# Altium schematic symbol library Inductors.SchLib: 9 symbols
Pins are listed as number, name and electrical type; pins without a type are passive.

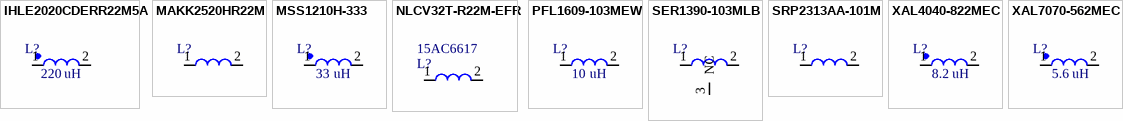
[diagram p0: symbols IHLE2020CDERR22M5A to XAL7070-562MEC]

## IHLE2020CDERR22M5A
designator L?  value 220  Units: uH  (hidden comment: *)
Power Inductor, 0.22UH, Shielded, 18A;; Manufacturer: Vishay; Manufacturer Part Number: IHLE2020CDERR22M5A; Supplier 1: Digi-Key; Stock 1: 200; Pricing 1: 1=1.58000, 10=1.46600, 25=1.35280, 50=1.12760, 100=1.05980, 250=0.94712, 500=0.81180, 1000=0.72160 (USD)
footprint INDP2523X23N-VISHAY-IHLE2020 (IHLE2020CDERR22M5A)
pins: 1, 2

## MAKK2520HR22M
designator L?  (value not drawn)
Inductor Power Chip Wirewound 0.22uH 20% 2MHz Metal 4.9A 0.021Ohm DCR 1008 T/R; Manufacturer: Taiyo Yuden; Manufacturer Part Number: MAKK2520HR22M; Inductance: 220nH; Saturation Current: 7.5A; Shielding: Shielded; DC Resistance (DCR): 21mR; Value: 220; Units: nH; Supplier 1: Newark; RoHS: Yes; Category: Fixed Inductors; Stock 1: 1787; Pricing 1: 1=0.02900, 25=0.02900, 50=0.02900, 100=0.02900, 250=0.02900, 500=0.02900 (USD); Mount: Surface Mount; Case/Package: 1008; Core Material: Metal; Case Code (Imperial): 1008; Case Code (Metric): 2520; Min Operating Temperature: -40°C; Max Operating Temperature: 125°C; Resistor Type: Wirewound; Packaging: Tape and Reel; Tolerance: 20%; Current Rating: 4.9A; Test Frequency: 2MHz; RoHS Compliant: No; ComponentLink1URL: http://www.farnell.com/datasheets/2603138.pdf?src-supplier=Farnell; ComponentLink1Description: http://www.farnell.com/datasheets/2603138.pdf?src-supplier=Farnell; ComponentLink2URL: http://www.farnell.com/datasheets/2603138.pdf?src-supplier=Newark; ComponentLink2Description: http://www.farnell.com/datasheets/2603138.pdf?src-supplier=Newark; ComponentLink3URL: https://ds.yuden.co.jp/TYCOMPAS/ut/detail?pn=MAKK2520HR22M &amp;u=M&src-supplier=Digi-Key; ComponentLink3Description: https://ds.yuden.co.jp/TYCOMPAS/ut/detail?pn=MAKK2520HR22M &amp;u=M&src-supplier=Digi-Key; ComponentLink4URL: http://ds.yuden.co.jp/TYCOMPAS/ut/detail.do?productNo=MAKK2520HR22M&amp;fileName=MAKK2520HR22M_SS&amp;mode=specSheetDownload&src-supplier=Digi-Key; ComponentLink4Description: http://ds.yuden.co.jp/TYCOMPAS/ut/detail.do?productNo=MAKK2520HR22M&amp;fileName=MAKK2520HR22M_SS&amp;mode=specSheetDownload&src-supplier=Digi-Key
footprint Chip2PinSM127P600-8N-TaiyoYuden-1008 (MAKK2520HR22M)
pins: 1, 2

## MSS1210H-333
designator L?  value 33  Units: uH  (hidden comment: *)
MSS1210H-333MED Unchecked Power Inductor, shielded, high temp, ferrite core, 10/20% tol, SMT, RoHS, halogen-free; Manufacturer: Coilcraft; Manufacturer Part Number: MSS1210H-333
footprint INDP120120X102N-COILCRAFT-MSS1210H (Precision Wire Wound Inductor, 2-Leads, Body 12.00x12.00mm, IPC Medium Density)
pins: 1, 2

## NLCV32T-R22M-EFR
designator L?  Supplier Part Number 1: 15AC6617  (hidden comment: *)
Inductor Power Unshielded Wirewound 220nH 20% 25.2MHz 10Q-Factor Ferrite 2.4A 32.4mOhm DCR 1210 T/R; Manufacturer: TDK; Manufacturer Part Number: NLCV32T-R22M-EFR; DC Resistance (DCR): 32.4mR; Self Resonant Frequency: 400MHz; Value: 220; Units: nH; Supplier 1: Newark; RoHS: Yes; Category: Fixed Inductors; Stock 1: 298; Pricing 1: 1=0.29700, 5=0.29700, 10=0.20000, 25=0.18900, 50=0.17800, 100=0.16700 (USD); Mount: Surface Mount; Case/Package: 1210; Core Material: Ferrite; Case Code (Metric): 3225; Case Code (Imperial): 1210; Weight: 0.000564oz; Min Operating Temperature: -40°C; Max Operating Temperature: 105°C; Packaging: Tape and Reel; Tolerance: 20%; Current Rating: 2.4A; Shielding: Unshielded; Resistor Type: Wirewound; Inductance: 220nH; Test Frequency: 25.2MHz; Package Quantity: 2000; Termination: SMD/SMT; Max DC Current: 2.4A; Length: 0.126inch; Width: 0.098inch; Height: 2.2mm; Height - Seated (Max): 0.094inch; RoHS Compliant: Yes; ComponentLink1URL: http://www.mouser.com/ds/2/400/tdk_inductorcommercialdecoupling_nlcv32-pf_en-533312.pdf?src-supplier=Mouser; ComponentLink1Description: http://www.mouser.com/ds/2/400/tdk_inductorcommercialdecoupling_nlcv32-pf_en-533312.pdf?src-supplier=Mouser; ComponentLink2URL: https://product.tdk.com/info/en/catalog/datasheets/inductor_commercial_decoupling_nlcv32-efr_en.pdf?src-supplier=Digi-Key; ComponentLink2Description: https://product.tdk.com/info/en/catalog/datasheets/inductor_commercial_decoupling_nlcv32-efr_en.pdf?src-supplier=Digi-Key; ComponentLink3URL: https://product.tdk.com/info/en/catalog/datasheets/inductor_commercial_decoupling_nlcv32-efr_en.pdf?ref_disty=digikey&src-supplier=Digi-Key; ComponentLink3Description: https://product.tdk.com/info/en/catalog/datasheets/inductor_commercial_decoupling_nlcv32-efr_en.pdf?ref_disty=digikey&src-supplier=Digi-Key
pins: 1, 2

## PFL1609-103MEW
designator L?  value 10  Units: uH  (hidden comment: *)
Power inductor, shielded, 20% tol, SMT, RoHS, halogen-free; Manufacturer: Coilcraft; Manufacturer Part Number: PFL1609-103MEW; Supplier 1: Mouser; RoHS: Yes; Category: Inductors; Pricing 1: 1=0.52000, 10=0.52000, 50=0.52000, 100=0.52000, 1000=0.44000, 10000=0.44000 (USD)
footprint Chip2PinSM127P600-8N-COILCRAFT-PFL1609 (PFL1609-103ME)
pins: 1, 2

## SER1390-103MLB
designator L?  (value not drawn)
Power inductor, high current, 20% tol, SMT, RoHS; Manufacturer: Coilcraft; Manufacturer Part Number: SER1390-103MLB; Core Material: Ferrite; Self Resonant Frequency: 26.9MHz; Shielding: Shielded; Inductance: 10uH; DC Resistance (DCR): 15mR; Test Frequency: 100kHz; Value: 10; Units: uH; Supplier 1: Mouser; RoHS: Yes; Category: Fixed Inductors; Min Operating Temperature: -40°C; Max Operating Temperature: 85°C; Packaging: Bulk; Package Quantity: 50; Tolerance: 20%; Termination: SMD/SMT; Length: 13.5mm; Width: 13.5mm; Height: 9mm; RoHS Compliant: Yes; ComponentLink1URL: http://www.mouser.com/ds/2/597/ser1390-471319.pdf?src-supplier=Mouser; ComponentLink1Description: http://www.mouser.com/ds/2/597/ser1390-471319.pdf?src-supplier=Mouser
footprint INDP2523X23N-COILCRAFT-SER1390
pins: 1, 2, 3 NC

## SRP2313AA-101M
designator L?  (value not drawn)
Ind, 23.5X22X12.6Mm, 100Uh20%, 11A, shdsmd / Tape & Reel - 13" Reel; Manufacturer: Bourns; Manufacturer Part Number: SRP2313AA-101M; Description: Ind, 23.5X22X12.6Mm, 10Uh20%, 30A, shdsmd / Tape & Reel - 13" Reel; Value: 100; Units: uH; Supplier 1: Mouser; RoHS: Yes; Stock 1: 1278; Pricing 1: 1=7.81000, 10=7.03000, 50=5.89000, 100=5.00000, 1000=4.85000, 10000=4.85000 (USD)
footprint INDP235220X130N-BOURNS-SRP2313AASeries (Precision Wire Wound Inductor, 2-Leads, Body 23.50x22.00mm, IPC Medium Density)
pins: 1, 2

## XAL4040-822MEC
designator L?  value 8.2  Units: uH  (hidden comment: *)
Not for new designs. Contact us for alternatives or support for existing programs.; Manufacturer: Coilcraft; Manufacturer Part Number: XAL4040-822MEC; Core Material: Composite; Self Resonant Frequency: 27MHz; Tolerance: 20%; Shielding: Shielded; Inductance: 8.2uH; Max DC Current: 3.4A; DC Resistance (DCR): 66.9mR; Test Frequency: 100kHz; Saturation Current: 4A; Supplier 1: Mouser; RoHS: Yes; Category: Fixed Inductors; Pricing 1: 1=2.35000, 10=2.35000, 50=2.35000, 100=1.90000, 250=1.67000, 500=1.18000, 1000=1.09000, 10000=1.09000 (USD); Mount: Surface Mount; Case/Package: SMD/SMT; Min Operating Temperature: -40°C; Max Operating Temperature: 125°C; Packaging: Tape and Reel; Package Quantity: 500; Termination: SMD/SMT; Series: XAL4040; Inductance Tolerance: 20%; RMS Current (Irms): 3.4A; Length: 4.3mm; Width: 4.3mm; Height: 3.1mm; Lead Free: Contains Lead; RoHS Compliant: Yes; REACH SVHC: Unknown; ComponentLink1URL: https://datasheet.ciiva.com/13320/xal4000-270751-13320489.pdf?src-supplier=Mouser; ComponentLink1Description: https://datasheet.ciiva.com/13320/xal4000-270751-13320489.pdf?src-supplier=Mouser; ComponentLink2URL: https://datasheet.ciiva.com/22680/1681987-22680746.pdf?src-supplier=Element14; ComponentLink2Description: https://datasheet.ciiva.com/22680/1681987-22680746.pdf?src-supplier=Element14; ComponentLink3URL: https://datasheet.ciiva.com/22680/1681987-22680747.pdf?src-supplier=Element14; ComponentLink3Description: https://datasheet.ciiva.com/22680/1681987-22680747.pdf?src-supplier=Element14; ComponentLink4URL: https://datasheet.ciiva.com/22701/1681987-22701563.pdf?src-supplier=Element14; ComponentLink4Description: https://datasheet.ciiva.com/22701/1681987-22701563.pdf?src-supplier=Element14
footprint INDP2523X23N-XAL4040-822 (XAL4040-822)
pins: 1, 2

## XAL7070-562MEC
designator L?  value 5.6  Units: uH  (hidden comment: *)
Power inductor, shielded, 20% tol, SMT, RoHS, halogen f; Manufacturer: Coilcraft; Manufacturer Part Number: XAL7070-562MEC; Core Material: Composite; Self Resonant Frequency: 21MHz; Inductance: 5.6uH; Max DC Current: 11.4A; DC Resistance (DCR): 15.03mR; Test Frequency: 100kHz; Saturation Current: 13A; Supplier 1: Mouser; RoHS: Yes; Category: Fixed Inductors; Stock 1: 1129; Pricing 1: 1=3.36000, 10=3.36000, 50=3.36000, 100=3.36000, 1000=3.36000, 10000=3.36000 (USD); Mount: Surface Mount; Case/Package: SMD/SMT; Min Operating Temperature: -40°C; Max Operating Temperature: 125°C; Packaging: Tape and Reel; Package Quantity: 150; Tolerance: 20%; Shielding: Shielded; Termination: SMD/SMT; Series: XAL7070; Inductance Tolerance: 20%; RMS Current (Irms): 11.4A; Length: 8mm; Width: 7.7mm; Height: 7mm; Lead Free: Contains Lead; RoHS Compliant: Yes; REACH SVHC: No SVHC; ComponentLink1URL: https://datasheet.ciiva.com/22680/1681997-22680421.pdf?src-supplier=Element14; ComponentLink1Description: https://datasheet.ciiva.com/22680/1681997-22680421.pdf?src-supplier=Element14; ComponentLink2URL: https://datasheet.ciiva.com/13277/xal7070-270690-13277399.pdf?src-supplier=Mouser; ComponentLink2Description: https://datasheet.ciiva.com/13277/xal7070-270690-13277399.pdf?src-supplier=Mouser; ComponentLink3URL: https://datasheet.ciiva.com/22701/1681997-22701597.pdf?src-supplier=Element14; ComponentLink3Description: https://datasheet.ciiva.com/22701/1681997-22701597.pdf?src-supplier=Element14
footprint INDP2523X23N-COILCRAFT-XAL7070
pins: 1, 2